# EAGLE library part DLPDLCR2000EVM (library DLP_lib)
The DLP® LightCrafter Display 2000 Evaluation Module (EVM) is the most affordable, compact, plug-and-play DLP display EVM for many ultra-mobile, ultra-portable display applications like mobile projectors, smart home displays, AR glasses, appliances, and robotics. This EVM features the DLP2000 (nHD) chipset, optical engine (which can be purchased separately here), and 8/16/24-bit RGB parallel video processor interface. Visit DLPDLCR230NPEVM for a higher performance EVM option that features 1080p resolution, 100lm, and Raspberry Pi out of the box. https://www.ti.com/tool/DLPDLCR2000EVM
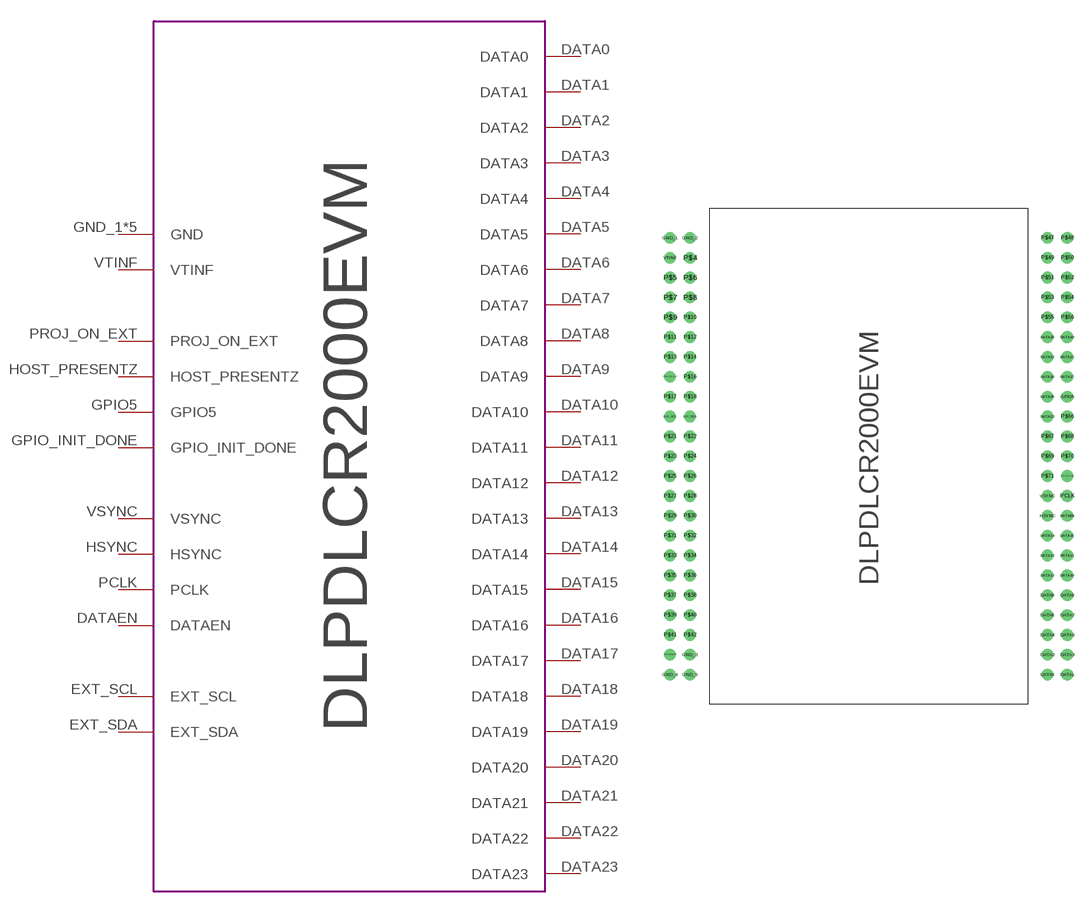
[diagram p0: symbol with the pads of DLPDLCR2000EVM; footprint DLPDLCR2000EVM]

Designator prefix -

## DLPDLCR2000EVM  [DLPDLCR2000EVM]
DATA0  DATA0
DATA1  DATA1
DATA2  DATA2
DATA3  DATA3
DATA4  DATA4
DATA5  DATA5
DATA6  DATA6
DATA7  DATA7
DATA8  DATA8
DATA9  DATA9
DATA10  DATA10
DATA11  DATA11
DATA12  DATA12
DATA13  DATA13
DATA14  DATA14
DATA15  DATA15
DATA16  DATA16
DATA17  DATA17
DATA18  DATA18
DATA19  DATA19
DATA20  DATA20
DATA21  DATA21
DATA22  DATA22
DATA23  DATA23
DATAEN  DATAEN
EXT_SCL  EXT_SCL
EXT_SDA  EXT_SDA
GND_1  GND
GND_2  GND
GND_3  GND
GND_4  GND
GND_5  GND
GPIO5  GPIO5
GPIO_INIT_DONE  GPIO_INIT_DONE
HOST_PRESENTZ  HOST_PRESENTZ
HSYNC  HSYNC
PCLK  PCLK
PROJ_ON_EXT  PROJ_ON_EXT
VSYNC  VSYNC
VTINF  VTINF

## Footprint DLPDLCR2000EVM (pad centres in mm)
drill 0.8 pad 1.5: DATA0 48.26,-55.88; DATA1 50.8,-55.88; DATA2 48.26,-53.34; DATA3 50.8,-53.34; DATA4 48.26,-50.8; DATA5 50.8,-50.8; DATA6 48.26,-48.26; DATA7 50.8,-48.26; DATA8 48.26,-45.72; DATA9 50.8,-45.72; DATA10 50.8,-43.18; DATA11 50.8,-40.64; DATA12 48.26,-43.18; DATA13 48.26,-40.64; DATA14 48.26,-38.1; DATA15 50.8,-38.1; DATA16 48.26,-17.78; DATA17 50.8,-17.78; DATA18 48.26,-12.7; DATA19 50.8,-12.7; DATA20 48.26,-20.32; DATA21 50.8,-15.24; DATA22 48.26,-15.24; DATA23 48.26,-22.86; DATAEN 50.8,-35.56; EXT_SCL 0,-22.86; EXT_SDA 2.54,-22.86; GND_1 0,0; GND_2 2.54,0; GND_3 2.54,-53.34; GND_4 0,-55.88; GND_5 2.54,-55.88; GPIO5 50.8,-20.32; GPIO_INIT_DONE 50.8,-30.48; HOST_PRESENTZ 0,-53.34; HSYNC 48.26,-35.56; P$4 2.54,-2.54; P$5 0,-5.08; P$6 2.54,-5.08; P$7 0,-7.62; P$8 2.54,-7.62; P$9 0,-10.16; P$10 2.54,-10.16; P$11 0,-12.7; P$12 2.54,-12.7; P$13 0,-15.24; P$14 2.54,-15.24; P$16 2.54,-17.78; P$17 0,-20.32; P$18 2.54,-20.32; P$21 0,-25.4; P$22 2.54,-25.4; P$23 0,-27.94; P$24 2.54,-27.94; P$25 0,-30.48; P$26 2.54,-30.48; P$27 0,-33.02; P$28 2.54,-33.02; P$29 0,-35.56; P$30 2.54,-35.56; P$31 0,-38.1; P$32 2.54,-38.1; P$33 0,-40.64; P$34 2.54,-40.64; P$35 0,-43.18; P$36 2.54,-43.18; P$37 0,-45.72; P$38 2.54,-45.72; P$39 0,-48.26; P$40 2.54,-48.26; P$41 0,-50.8; P$42 2.54,-50.8; P$47 48.26,0; P$48 50.8,0; P$49 48.26,-2.54; P$50 50.8,-2.54; P$51 48.26,-5.08; P$52 50.8,-5.08; P$53 48.26,-7.62; P$54 50.8,-7.62; P$55 48.26,-10.16; P$56 50.8,-10.16; P$66 50.8,-22.86; P$67 48.26,-25.4; P$68 50.8,-25.4; P$69 48.26,-27.94; P$70 50.8,-27.94; P$71 48.26,-30.48; PCLK 50.8,-33.02; PROJ_ON_EXT 0,-17.78; VSYNC 48.26,-33.02; VTINF 0,-2.54